# Altium footprint library 18650 battery.PCBLIB: 111 footprints (part 4 of 7)
Each footprint in its own frame and in the unit in brackets; x right, y up, seen from the top. Pads: shape width x height; smd on the part's side, far side on the other; paste and mask are expansions set on the pad; w line width, h text height; cw(c..) or ccw(c..) is an arc to the next point about the centre after c.
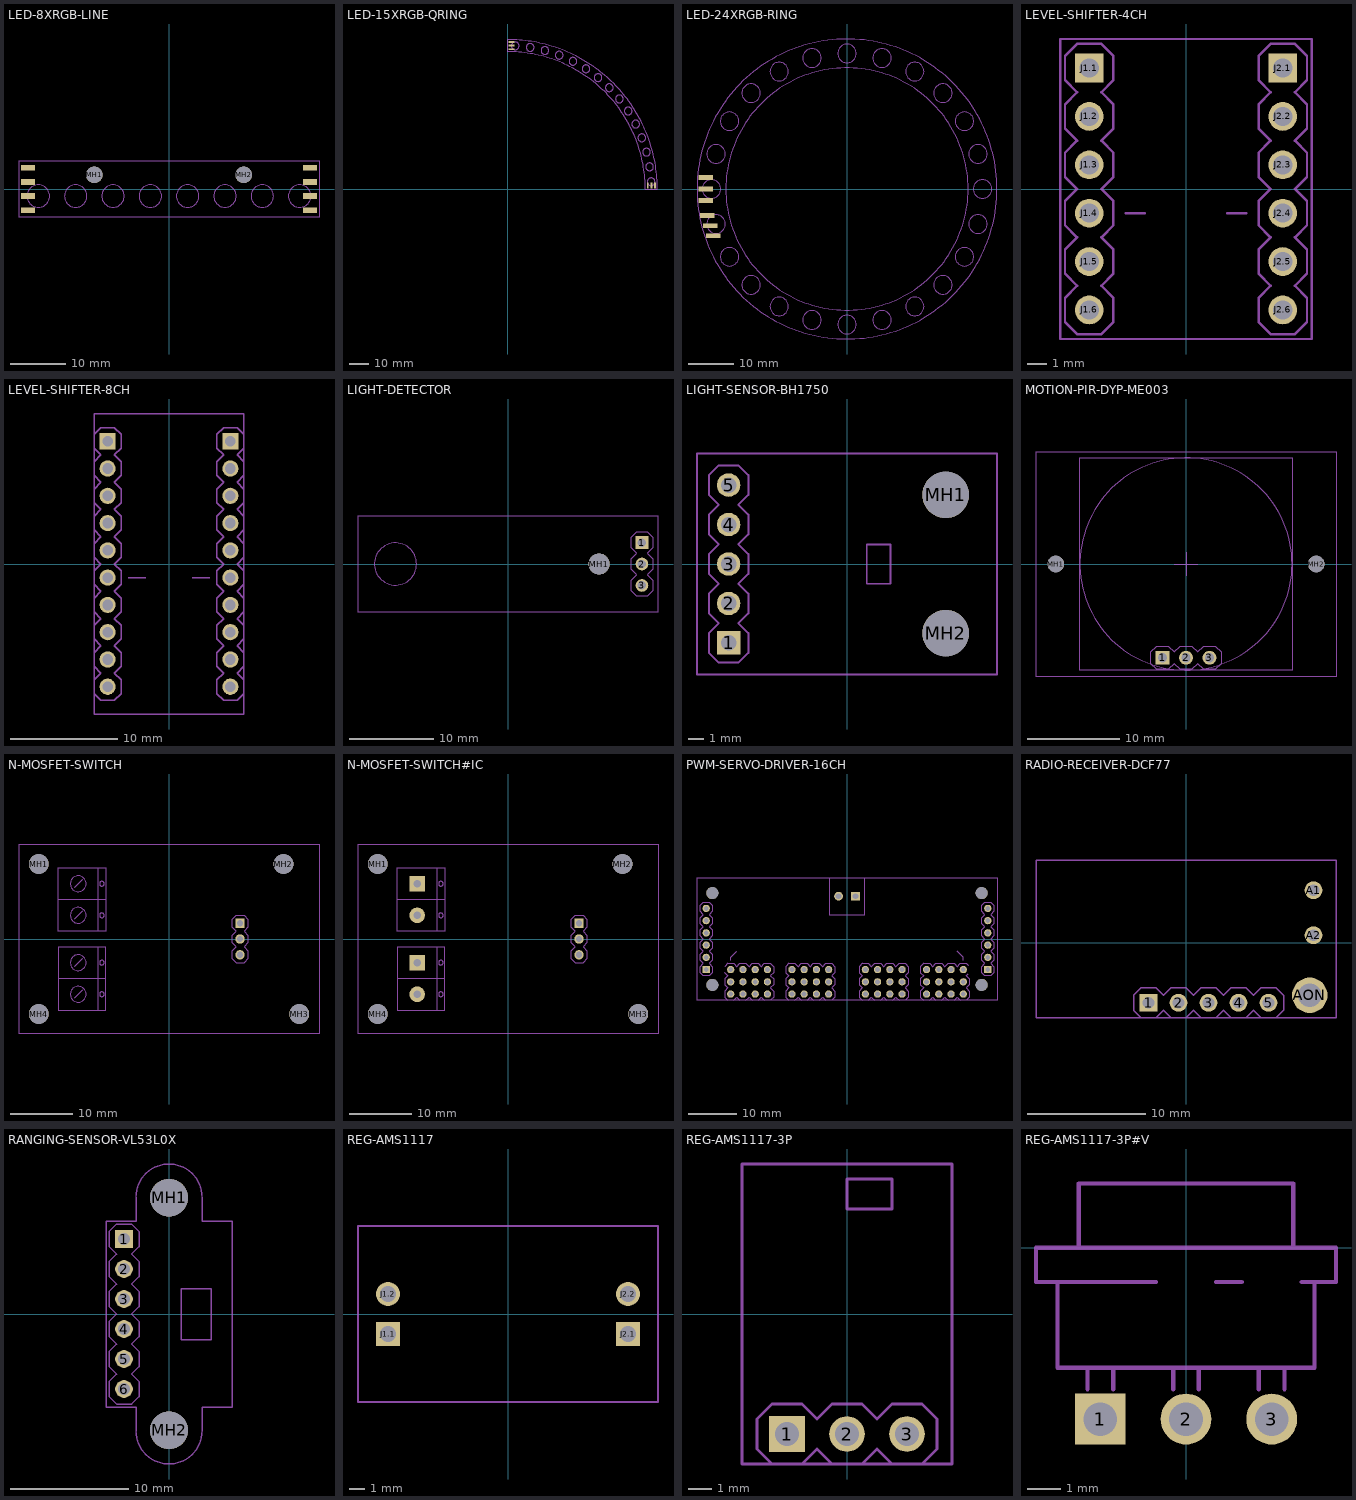
[diagram p3: the footprints below, top view; thin cyan lines are the x and y axes]

## LED-8XRGB-LINE [mil]
pads (10):
  rect 100x40 smd: A.1(-1000,150) A.2(-1000,50) A.3(-1000,-50) A.4(-1000,-150) B.1(1000,150) B.2(1000,50) B.3(1000,-50) B.4(1000,-150)
  round 118.11 hole 118.11 unplated: MH1(-530,100) MH2(530,100)
tPlace:
  circle w5: c-927.5,-50 r80
  circle w5: c-662.5,-50 r80
  circle w5: c-397.5,-50 r80
  circle w5: c-132.5,-50 r80
  circle w5: c132.5,-50 r80
  circle w5: c397.5,-50 r80
  circle w5: c662.5,-50 r80
  circle w5: c927.5,-50 r80
  lines w5: -1065,-200 1065,-200 1065,200 -1065,200 -1065,-200
  text "GND" at -1100,150 h77.5
  text "1" at 927.5,-50 h108.5
  text "DOUT" at -1100,50 h77.5
  text "VCC" at -1100,-50 h77.5
  text "GND" at -1100,-150 h77.5
  text "GND" at 1100,150 h77.5
  text "DIN" at 1100,50 h77.5
  text "VCC" at 1100,-50 h77.5
  text "GND" at 1100,-150 h77.5
  text "8" at -927.5,-50 h108.5

## LED-15XRGB-QRING [mil]
pads (6):
  rect 125x40 smd: 1(75,3050) 2(75,2975) 3(75,2900)
  rect 40x125 smd: 4(3050,75) 5(2975,75) 6(2900,75)
tPlace:
  circle w5: c155.7,2970.9 r80
  circle w5: c465.4,2938.4 r80
  circle w5: c770,2873.6 r80
  circle w5: c1066.1,2777.4 r80
  circle w5: c1350.6,2650.7 r80
  circle w5: c1620.3,2495 r80
  circle w5: c1872.2,2312 r80
  circle w5: c2103.6,2103.6 r80
  circle w5: c2312,1872.2 r80
  circle w5: c2495,1620.5 r80
  circle w5: c2650.7,1350.6 r80
  circle w5: c2777.4,1066.1 r80
  circle w5: c2873.6,770 r80
  circle w5: c2938.4,465.4 r80
  circle w5: c2970.9,155.7 r80
  lines w5: 0,2850 0,3100 cw(c0,0) 3100,0 2850,0 ccw(c0,0) 0,2850
  text "1" at 155.7,2970.9 h108.5
  text "GND" at -50,3050 h77.5
  text "DIN" at -50,2975 h77.5
  text "VCC" at -50,2900 h77.5
  text "GND" at 3050,-50 h77.5
  text "DOUT" at 2975,-50 h77.5
  text "VCC" at 2900,-50 h77.5
  text "15" at 2970.9,155.7 h108.5

## LED-24XRGB-RING [mil]
pads (6):
  rect 125x40 smd: 1(-1225,100) 2(-1225,0) 3(-1225,-100) 4(-1210,-230) 5(-1185,-320) 6(-1160,-405)
tPlace:
  circle w5: c0,0 r1050
  circle w5: c0,0 r1300
  circle w5: c-1175,0 r80
  circle w5: c1175,0 r80
  circle w5: c0,1175 r80
  circle w5: c0,-1175 r80
  circle w5: c-1135,304.1 r80
  circle w5: c-1017.6,587.5 r80
  circle w5: c-830.9,830.9 r80
  circle w5: c-587.5,1017.6 r80
  circle w5: c304.1,1135 r80
  circle w5: c-304.1,1135 r80
  circle w5: c587.5,1017.6 r80
  circle w5: c830.9,830.9 r80
  circle w5: c1017.6,587.5 r80
  circle w5: c1135,304.1 r80
  circle w5: c1135,-304.1 r80
  circle w5: c1017.6,-587.5 r80
  circle w5: c830.9,-830.9 r80
  circle w5: c587.5,-1017.6 r80
  circle w5: c304.1,-1135 r80
  circle w5: c-304.1,-1135 r80
  circle w5: c-830.9,-830.9 r80
  circle w5: c-587.5,-1017.6 r80
  circle w5: c-1017.6,-587.5 r80
  circle w5: c-1135,-304.1 r80
  text "1" at -1175,0 h108.5
  text "VCC" at -1000,0 h77.5
  text "GND" at -990,100 h77.5
  text "DIN" at -990,-100 h77.5
  text "DOUT" at -980,-200 h77.5
  text "VCC" at -960,-300 h77.5
  text "GND" at -925,-400 h77.5
  text "7" at 0,1175 h108.5
  text "13" at 1175,0 h108.5
  text "19" at 0,-1175 h108.5

## LEVEL-SHIFTER-4CH [mm]
pads (12):
  rect 1.508x1.508 / inner round 1.393 / far side rect 1.508x1.508 hole 1: J1.1(-5.08,6.35) J2.1(5.08,6.35)
  round 1.508 hole 1: J1.2(-5.08,3.81) J1.3(-5.08,1.27) J1.4(-5.08,-1.27) J1.5(-5.08,-3.81) J1.6(-5.08,-6.35) J2.2(5.08,3.81) J2.3(5.08,1.27) J2.4(5.08,-1.27) J2.5(5.08,-3.81) J2.6(5.08,-6.35)
tPlace:
  lines w0.127: -3.175,-1.27 -2.159,-1.27 ; 2.159,-1.27 3.175,-1.27 ; -6.604,-7.874 6.604,-7.874 6.604,7.874 -6.604,7.874 -6.604,-7.874 ; -6.35,-6.985 -5.715,-7.62 -4.445,-7.62 -3.81,-6.985 -3.81,-5.715 -4.445,-5.08 -3.81,-4.445 -3.81,-3.175 -4.445,-2.54 -3.81,-1.905 -3.81,-0.635 -4.445,0 -3.81,0.635 -3.81,1.905 -4.445,2.54 -3.81,3.175 -3.81,4.445 -4.445,5.08 -3.81,5.715 -3.81,6.985 -4.445,7.62 -5.715,7.62 -6.35,6.985 -6.35,5.715 -5.715,5.08 -6.35,4.445 -6.35,3.175 -5.715,2.54 -6.35,1.905 -6.35,0.635 -5.715,0 -6.35,-0.635 -6.35,-1.905 -5.715,-2.54 -6.35,-3.175 -6.35,-4.445 -5.715,-5.08 -6.35,-5.715 -6.35,-6.985 ; 3.81,-6.985 3.81,-5.715 4.445,-5.08 3.81,-4.445 3.81,-3.175 4.445,-2.54 3.81,-1.905 3.81,-0.635 4.445,0 3.81,0.635 3.81,1.905 4.445,2.54 3.81,3.175 3.81,4.445 4.445,5.08 3.81,5.715 3.81,6.985 4.445,7.62 5.715,7.62 6.35,6.985 6.35,5.715 5.715,5.08 6.35,4.445 6.35,3.175 5.715,2.54 6.35,1.905 6.35,0.635 5.715,0 6.35,-0.635 6.35,-1.905 5.715,-2.54 6.35,-3.175 6.35,-4.445 5.715,-5.08 6.35,-5.715 6.35,-6.985 5.715,-7.62 4.445,-7.62 3.81,-6.985
  text "HV1" at 3.175,6.35 h1.57
  text "HV2" at 3.175,3.81 h1.57
  text "HV" at 3.175,1.27 h1.97
  text "GND" at 0,-1.27 h1.97
  text "HV3" at 3.175,-3.81 h1.57
  text "HV4" at 3.175,-6.35 h1.57
  text "LV1" at -3.175,6.35 h1.57
  text "LV2" at -3.175,3.81 h1.57
  text "LV" at -3.175,1.27 h1.97
  text "LV3" at -3.175,-3.81 h1.57
  text "LV4" at -3.175,-6.35 h1.57

## LEVEL-SHIFTER-8CH [mm]
pads (20):
  rect 1.508x1.508 / inner round 1.393 / far side rect 1.508x1.508 hole 1: J1.1(-5.715,11.43) J2.1(5.715,11.43)
  round 1.508 hole 1: J1.2(-5.715,8.89) J1.3(-5.715,6.35) J1.4(-5.715,3.81) J1.5(-5.715,1.27) J1.6(-5.715,-1.27) J1.7(-5.715,-3.81) J1.8(-5.715,-6.35) J1.9(-5.715,-8.89) J1.10(-5.715,-11.43) J2.2(5.715,8.89) J2.3(5.715,6.35) J2.4(5.715,3.81) J2.5(5.715,1.27) J2.6(5.715,-1.27) J2.7(5.715,-3.81) J2.8(5.715,-6.35) J2.9(5.715,-8.89) J2.10(5.715,-11.43)
tPlace:
  lines w0.127: -6.985,-12.065 -6.35,-12.7 -5.08,-12.7 -4.445,-12.065 -4.445,-10.795 -5.08,-10.16 -4.445,-9.525 -4.445,-8.255 -5.08,-7.62 -4.445,-6.985 -4.445,-5.715 -5.08,-5.08 -4.445,-4.445 -4.445,-3.175 -5.08,-2.54 -4.445,-1.905 -4.445,-0.635 -5.08,0 -4.445,0.635 -4.445,1.905 -5.08,2.54 -4.445,3.175 -4.445,4.445 -5.08,5.08 -4.445,5.715 -4.445,6.985 -5.08,7.62 -4.445,8.255 -4.445,9.525 -5.08,10.16 -4.445,10.795 -4.445,12.065 -5.08,12.7 -6.35,12.7 -6.985,12.065 ; -6.985,-10.795 -6.35,-10.16 -6.985,-9.525 ; -6.985,-8.255 -6.35,-7.62 -6.985,-6.985 ; -6.985,-5.715 -6.35,-5.08 -6.985,-4.445 ; -6.985,-3.175 -6.35,-2.54 -6.985,-1.905 ; -6.985,-0.635 -6.35,0 -6.985,0.635 ; -6.985,1.905 -6.35,2.54 -6.985,3.175 ; -6.985,4.445 -6.35,5.08 -6.985,5.715 ; -6.985,6.985 -6.35,7.62 -6.985,8.255 ; -6.985,9.525 -6.35,10.16 -6.985,10.795 ; -3.81,-1.27 -2.159,-1.27 ; 2.159,-1.27 3.81,-1.27 ; 6.985,-12.065 6.35,-12.7 5.08,-12.7 4.445,-12.065 4.445,-10.795 5.08,-10.16 4.445,-9.525 4.445,-8.255 5.08,-7.62 4.445,-6.985 4.445,-5.715 5.08,-5.08 4.445,-4.445 4.445,-3.175 5.08,-2.54 4.445,-1.905 4.445,-0.635 5.08,0 4.445,0.635 4.445,1.905 5.08,2.54 4.445,3.175 4.445,4.445 5.08,5.08 4.445,5.715 4.445,6.985 5.08,7.62 4.445,8.255 4.445,9.525 5.08,10.16 4.445,10.795 4.445,12.065 5.08,12.7 6.35,12.7 6.985,12.065 ; 6.985,-10.795 6.35,-10.16 6.985,-9.525 ; 6.985,-8.255 6.35,-7.62 6.985,-6.985 ; 6.985,-5.715 6.35,-5.08 6.985,-4.445 ; 6.985,-3.175 6.35,-2.54 6.985,-1.905 ; 6.985,-0.635 6.35,0 6.985,0.635 ; 6.985,1.905 6.35,2.54 6.985,3.175 ; 6.985,4.445 6.35,5.08 6.985,5.715 6.985,6.985 6.35,7.62 6.985,8.255 6.985,9.525 6.35,10.16 6.985,10.795 ; -6.985,-13.97 6.985,-13.97 6.985,13.97 -6.985,13.97 -6.985,-13.97
  text "HV1" at 3.81,11.43 h1.97
  text "HV2" at 3.81,8.89 h1.97
  text "HV" at 3.81,1.27 h1.97
  text "GND" at 0,-1.27 h1.97
  text "HV3" at 3.81,6.35 h1.97
  text "HV4" at 3.81,3.81 h1.97
  text "LV1" at -3.81,11.43 h1.97
  text "LV2" at -3.81,8.89 h1.97
  text "LV" at -3.81,1.27 h1.97
  text "LV3" at -3.81,6.35 h1.97
  text "LV4" at -3.81,3.81 h1.97
  text "LV5" at -3.81,-3.81 h1.97
  text "LV6" at -3.81,-6.35 h1.97
  text "LV7" at -3.81,-8.89 h1.97
  text "LV8" at -3.81,-11.43 h1.97
  text "HV5" at 3.81,-3.81 h1.97
  text "HV6" at 3.81,-6.35 h1.97
  text "HV7" at 3.81,-8.89 h1.97
  text "HV8" at 3.81,-11.43 h1.97

## LIGHT-DETECTOR [mm]
pads (4):
  rect 1.508x1.508 / inner round 1.393 / far side rect 1.508x1.508 hole 1: 1(15.875,2.54)
  round 1.508 hole 1: 2(15.875,0) 3(15.875,-2.54)
  round 2.5 hole 2.5 unplated: MH1(10.795,0)
tPlace:
  circle w0.127: c-13.335,0 r2.5
  lines w0.127: -17.78,-5.715 17.78,-5.715 17.78,5.715 -17.78,5.715 -17.78,-5.715 ; 14.605,-3.175 15.24,-3.81 16.51,-3.81 17.145,-3.175 17.145,-1.905 16.51,-1.27 17.145,-0.635 17.145,0.635 16.51,1.27 17.145,1.905 17.145,3.175 16.51,3.81 15.24,3.81 14.605,3.175 14.605,1.905 15.24,1.27 14.605,0.635 14.605,-0.635 15.24,-1.27 14.605,-1.905 14.605,-3.175
  text "SENS" at -13.335,0 h1.57

## LIGHT-SENSOR-BH1750 [mm]
pads (7):
  rect 1.508x1.508 / inner round 1.393 / far side rect 1.508x1.508 hole 1: 1(-7.62,-5.08)
  round 1.508 hole 1: 2(-7.62,-2.54) 3(-7.62,0) 4(-7.62,2.54) 5(-7.62,5.08)
  round 3 hole 3 unplated: MH1(6.35,4.445) MH2(6.35,-4.445)
tPlace:
  lines w0.127: -9.652,-7.112 9.652,-7.112 9.652,7.112 -9.652,7.112 -9.652,-7.112 ; -8.89,-5.715 -8.89,-4.445 -8.255,-3.81 -8.89,-3.175 -8.89,-1.905 -8.255,-1.27 -8.89,-0.635 -8.89,0.635 -8.255,1.27 -8.89,1.905 -8.89,3.175 -8.255,3.81 -8.89,4.445 -8.89,5.715 -8.255,6.35 -6.985,6.35 -6.35,5.715 -6.35,4.445 -6.985,3.81 -6.35,3.175 -6.35,1.905 -6.985,1.27 -6.35,0.635 -6.35,-0.635 -6.985,-1.27 -6.35,-1.905 -6.35,-3.175 -6.985,-3.81 -6.35,-4.445 -6.35,-5.715 -6.985,-6.35 -8.255,-6.35 -8.89,-5.715 ; 1.27,-1.27 2.794,-1.27 2.794,1.27 1.27,1.27 1.27,-1.27
  text "SCL" at -5.715,0 h1.97
  text "SDA" at -5.715,2.54 h1.97
  text "ADDR" at -5.715,5.08 h1.97
  text "GND" at -5.715,-2.54 h1.97
  text "VCC" at -5.715,-5.08 h1.97
  text "BH1750" at 3.81,0 h1.57

## MOTION-PIR-DYP-ME003 [mm]
pads (5):
  rect 1.508x1.508 / inner round 1.393 / far side rect 1.508x1.508 hole 1: 1(-2.54,-10.16)
  round 1.508 hole 1: 2(0,-10.16) 3(2.54,-10.16)
  round 1.8 hole 1.8 unplated: MH1(-14.1,0) MH2(14.1,0)
tPlace:
  circle w0.127: c0,0 r11.5
  lines w0.127: -1.27,0 1.27,0 ; 0,-1.27 0,1.27 ; -16.256,-12.192 16.256,-12.192 16.256,12.192 -16.256,12.192 -16.256,-12.192 ; -11.5,-11.5 11.5,-11.5 11.5,11.5 -11.5,11.5 -11.5,-11.5 ; -3.81,-10.795 -3.175,-11.43 -1.905,-11.43 -1.27,-10.795 -0.635,-11.43 0.635,-11.43 1.27,-10.795 1.905,-11.43 3.175,-11.43 3.81,-10.795 3.81,-9.525 3.175,-8.89 1.905,-8.89 1.27,-9.525 0.635,-8.89 -0.635,-8.89 -1.27,-9.525 -1.905,-8.89 -3.175,-8.89 -3.81,-9.525 -3.81,-10.795

## N-MOSFET-SWITCH [mm]
pads (7):
  rect 1.508x1.508 / inner round 1.393 / far side rect 1.508x1.508 hole 1: J1.1(11.43,2.54)
  round 1.508 hole 1: J1.2(11.43,0) J1.3(11.43,-2.54)
  round 3.2 hole 3.2 unplated: MH1(-20.955,12.065) MH2(18.415,12.065) MH3(20.955,-12.065) MH4(-20.955,-12.065)
tPlace:
  circle w0.127: c-10.795,8.89 r0.381
  circle w0.127: c-10.795,3.81 r0.381
  circle w0.127: c-10.795,-3.81 r0.381
  circle w0.127: c-10.795,-8.89 r0.381
  circle w0.127: c-14.605,3.81 r1.27
  circle w0.127: c-14.605,8.89 r1.27
  circle w0.127: c-14.605,-3.81 r1.27
  circle w0.127: c-14.605,-8.89 r1.27
  lines w0.127: -15.24,-9.525 -13.97,-8.255 ; -15.24,-4.445 -13.97,-3.175 ; -15.24,3.175 -13.97,4.445 ; -15.24,8.255 -13.97,9.525 ; -17.78,-6.35 -17.78,-1.27 -11.43,-1.27 ; -17.78,-6.35 -10.16,-6.35 ; -17.78,-6.35 -17.78,-11.43 -11.43,-11.43 ; -17.78,6.35 -17.78,1.27 -11.43,1.27 ; -17.78,6.35 -17.78,11.43 -11.43,11.43 ; -17.78,6.35 -10.16,6.35 ; -11.43,-11.43 -10.16,-11.43 -10.16,-6.35 ; -11.43,-11.43 -11.43,-1.27 ; -11.43,-1.27 -10.16,-1.27 -10.16,-6.35 ; -11.43,1.27 -10.16,1.27 -10.16,6.35 ; -11.43,1.27 -11.43,11.43 ; -11.43,11.43 -10.16,11.43 -10.16,6.35 ; -24.13,-15.24 24.13,-15.24 24.13,15.24 -24.13,15.24 -24.13,-15.24 ; 10.16,-3.175 10.795,-3.81 12.065,-3.81 12.7,-3.175 12.7,-1.905 12.065,-1.27 12.7,-0.635 12.7,0.635 12.065,1.27 12.7,1.905 12.7,3.175 12.065,3.81 10.795,3.81 10.16,3.175 10.16,1.905 10.795,1.27 10.16,0.635 10.16,-0.635 10.795,-1.27 10.16,-1.905 10.16,-3.175
  text "V+" at -8.89,8.89 h1.97
  text "COM" at -8.89,3.81 h1.97
  text "V+" at -8.89,-3.81 h1.97
  text "SW" at -8.89,-8.89 h1.97
  text "IN" at -19.685,6.35 h2.76
  text "OUT" at -19.685,-6.35 h2.76
  text "GND" at 8.89,2.54 h1.97
  text "VCC" at 8.89,0 h1.97
  text "CTRL" at 8.89,-2.54 h1.97

## N-MOSFET-SWITCH#IC [mm]
pads (11):
  rect 1.508x1.508 / inner round 1.393 / far side rect 1.508x1.508 hole 1: J1.1(11.43,2.54)
  round 1.508 hole 1: J1.2(11.43,0) J1.3(11.43,-2.54)
  round 3.2 hole 3.2 unplated: MH1(-20.955,12.065) MH2(18.415,12.065) MH3(20.955,-12.065) MH4(-20.955,-12.065)
  rect 2.5x2.5 / inner round 2.31 / far side rect 2.5x2.5 hole 1.2: P1.1(-14.605,8.89) P2.1(-14.605,-3.81)
  round 2.5 hole 1.2: P1.2(-14.605,3.81) P2.2(-14.605,-8.89)
tPlace:
  circle w0.127: c-10.795,8.89 r0.381
  circle w0.127: c-10.795,3.81 r0.381
  circle w0.127: c-10.795,-3.81 r0.381
  circle w0.127: c-10.795,-8.89 r0.381
  lines w0.127: -17.78,-6.35 -17.78,-1.27 -11.43,-1.27 ; -17.78,-6.35 -10.16,-6.35 ; -17.78,-6.35 -17.78,-11.43 -11.43,-11.43 ; -17.78,6.35 -17.78,1.27 -11.43,1.27 ; -17.78,6.35 -17.78,11.43 -11.43,11.43 ; -17.78,6.35 -10.16,6.35 ; -11.43,-11.43 -10.16,-11.43 -10.16,-6.35 ; -11.43,-11.43 -11.43,-1.27 ; -11.43,-1.27 -10.16,-1.27 -10.16,-6.35 ; -11.43,1.27 -10.16,1.27 -10.16,6.35 ; -11.43,1.27 -11.43,11.43 ; -11.43,11.43 -10.16,11.43 -10.16,6.35 ; -24.13,-15.24 24.13,-15.24 24.13,15.24 -24.13,15.24 -24.13,-15.24 ; 10.16,-3.175 10.795,-3.81 12.065,-3.81 12.7,-3.175 12.7,-1.905 12.065,-1.27 12.7,-0.635 12.7,0.635 12.065,1.27 12.7,1.905 12.7,3.175 12.065,3.81 10.795,3.81 10.16,3.175 10.16,1.905 10.795,1.27 10.16,0.635 10.16,-0.635 10.795,-1.27 10.16,-1.905 10.16,-3.175
  text "V+" at -8.89,8.89 h1.97
  text "COM" at -8.89,3.81 h1.97
  text "V+" at -8.89,-3.81 h1.97
  text "SW" at -8.89,-8.89 h1.97
  text "IN" at -19.685,6.35 h2.76
  text "OUT" at -19.685,-6.35 h2.76
  text "GND" at 8.89,2.54 h1.97
  text "VCC" at 8.89,0 h1.97
  text "CTRL" at 8.89,-2.54 h1.97

## PWM-SERVO-DRIVER-16CH [mm]
pads (66):
  round 1.508 hole 1: C0.1(-24.13,-6.35) C0.2(-24.13,-8.89) C0.3(-24.13,-11.43) C1.1(-21.59,-6.35) C1.2(-21.59,-8.89) C1.3(-21.59,-11.43) C2.1(-19.05,-6.35) C2.2(-19.05,-8.89) C2.3(-19.05,-11.43) C3.1(-16.51,-6.35) C3.2(-16.51,-8.89) C3.3(-16.51,-11.43) C4.1(-11.43,-6.35) C4.2(-11.43,-8.89) C4.3(-11.43,-11.43) C5.1(-8.89,-6.35) C5.2(-8.89,-8.89) C5.3(-8.89,-11.43) C6.1(-6.35,-6.35) C6.2(-6.35,-8.89) C6.3(-6.35,-11.43) C7.1(-3.81,-6.35) C7.2(-3.81,-8.89) C7.3(-3.81,-11.43) C8.1(3.81,-6.35) C8.2(3.81,-8.89) C8.3(3.81,-11.43) C9.1(6.35,-6.35) C9.2(6.35,-8.89) C9.3(6.35,-11.43) C10.1(8.89,-6.35) C10.2(8.89,-8.89) C10.3(8.89,-11.43) C11.1(11.43,-6.35) C11.2(11.43,-8.89) C11.3(11.43,-11.43) C12.1(16.51,-6.35) C12.2(16.51,-8.89) C12.3(16.51,-11.43) C13.1(19.05,-6.35) C13.2(19.05,-8.89) C13.3(19.05,-11.43) C14.1(21.59,-6.35) C14.2(21.59,-8.89) C14.3(21.59,-11.43) C15.1(24.13,-6.35) C15.2(24.13,-8.89) C15.3(24.13,-11.43) JP3.2(-29.21,-3.81) JP3.3(-29.21,-1.27) JP3.4(-29.21,1.27) JP3.5(-29.21,3.81) JP3.6(-29.21,6.35) JP4.2(29.21,-3.81) JP4.3(29.21,-1.27) JP4.4(29.21,1.27) JP4.5(29.21,3.81) JP4.6(29.21,6.35)
  rect 1.8x1.8 / inner round 1.663 / far side rect 1.8x1.8 hole 1.2: J1.1(1.753,8.89)
  round 1.8 hole 1.2: J1.2(-1.753,8.89)
  rect 1.508x1.508 / inner round 1.393 / far side rect 1.508x1.508 hole 1: JP3.1(-29.21,-6.35) JP4.1(29.21,-6.35)
  round 2.5 hole 2.5 unplated: MH1(-27.94,9.525) MH2(-27.94,-9.525) MH3(27.94,9.525) MH4(27.94,-9.525)
tPlace:
  drawing of 255 lines, arcs and shapes, not listed
  text "GND" at -27.305,6.35 h1.97
  text "OE" at -27.305,3.81 h1.97
  text "SCL" at -27.305,1.27 h1.97
  text "SDA" at -27.305,-1.27 h1.97
  text "VCC" at -27.305,-3.81 h1.57
  text "V+" at -27.305,-6.35 h1.57
  text "GND" at 27.305,6.35 h1.97
  text "OE" at 27.305,3.81 h1.97
  text "SCL" at 27.305,1.27 h1.97
  text "SDA" at 27.305,-1.27 h1.97
  text "VCC" at 27.305,-3.81 h1.57
  text "V+" at 27.305,-6.35 h1.57
  text "PWM" at 0,-6.35 h1.97
  text "V+" at 0,-8.89 h1.97
  text "GND" at 0,-11.43 h1.97
  text "1" at -21.59,-4.445 h1.97
  text "2" at -19.05,-4.445 h1.97
  text "3" at -16.51,-4.445 h1.97
  text "4" at -11.43,-4.445 h1.97
  text "5" at -8.89,-4.445 h1.97
  text "6" at -6.35,-4.445 h1.97
  text "7" at -3.81,-4.445 h1.97
  text "8" at 3.81,-4.445 h1.97
  text "9" at 6.35,-4.445 h1.97
  text "10" at 8.89,-4.445 h1.97
  text "11" at 11.43,-4.445 h1.97
  text "12" at 16.51,-4.445 h1.97
  text "13" at 19.05,-4.445 h1.97
  text "14" at 21.59,-4.445 h1.97
  text "0" at -22.606,-2.286 h1.97
  text "15" at 22.606,-2.286 h1.97
  text "V+" at -1.905,3.81 h1.97
  text "GND" at 1.905,3.81 h1.97

## RADIO-RECEIVER-DCF77 [mm]
pads (8):
  rect 1.508x1.508 / inner round 1.393 / far side rect 1.508x1.508 hole 1: 1(-3.175,-5.08)
  round 1.508 hole 1: 2(-0.635,-5.08) 3(1.905,-5.08) 4(4.445,-5.08) 5(6.985,-5.08) A1(10.795,4.445) A2(10.795,0.635)
  round 3 hole 2: AON(10.477,-4.445)
tPlace:
  lines w0.127: -3.81,-6.35 -2.54,-6.35 ; -3.81,-6.35 -12.7,-6.35 -12.7,6.985 12.7,6.985 12.7,-6.35 7.62,-6.35 ; -3.81,-6.35 -4.445,-5.715 -4.445,-4.445 -3.81,-3.81 -2.54,-3.81 -1.905,-4.445 -1.27,-3.81 0,-3.81 0.635,-4.445 1.27,-3.81 2.54,-3.81 3.175,-4.445 3.81,-3.81 5.08,-3.81 5.715,-4.445 6.35,-3.81 7.62,-3.81 8.255,-4.445 8.255,-5.715 7.62,-6.35 ; -2.54,-6.35 -1.27,-6.35 ; -2.54,-6.35 -1.905,-5.715 -1.27,-6.35 ; -1.27,-6.35 0,-6.35 ; 0,-6.35 1.27,-6.35 ; 0,-6.35 0.635,-5.715 1.27,-6.35 ; 1.27,-6.35 2.54,-6.35 ; 2.54,-6.35 3.81,-6.35 ; 2.54,-6.35 3.175,-5.715 3.81,-6.35 ; 3.81,-6.35 5.08,-6.35 ; 5.08,-6.35 6.35,-6.35 ; 5.08,-6.35 5.715,-5.715 6.35,-6.35 ; 6.35,-6.35 7.62,-6.35
  text "V" at -3.175,-3.175 h1.97
  text "G" at -0.635,-3.175 h1.97
  text "P2" at 1.905,-3.175 h1.97
  text "T" at 4.445,-3.175 h1.97
  text "P1" at 6.985,-3.175 h1.97
  text "ANT1" at 9.525,4.445 h1.97
  text "ANT2" at 9.525,0.635 h1.97
  text "AON" at 10.477,-2.54 h1.97

## RANGING-SENSOR-VL53L0X [mm]
pads (8):
  rect 1.508x1.508 / inner round 1.393 / far side rect 1.508x1.508 hole 1: 1(-3.81,6.35)
  round 1.508 hole 1: 2(-3.81,3.81) 3(-3.81,1.27) 4(-3.81,-1.27) 5(-3.81,-3.81) 6(-3.81,-6.35)
  round 3.2 hole 3.2 unplated: MH1(0,9.85) MH2(0,-9.85)
tPlace:
  lines w0.127: -5.334,-7.874 -5.334,7.874 -2.794,7.874 -2.794,9.906 cw(c0,9.906) 2.794,9.906 2.794,7.874 5.334,7.874 5.334,-7.874 2.794,-7.874 2.794,-9.906 cw(c0,-9.906) -2.794,-9.906 -2.794,-7.874 -5.334,-7.874 ; -5.08,-6.985 -5.08,-5.715 -4.445,-5.08 -5.08,-4.445 -5.08,-3.175 -4.445,-2.54 -5.08,-1.905 -5.08,-0.635 -4.445,0 -5.08,0.635 -5.08,1.905 -4.445,2.54 -5.08,3.175 -5.08,4.445 -4.445,5.08 -5.08,5.715 -5.08,6.985 -4.445,7.62 -3.175,7.62 -2.54,6.985 -2.54,5.715 -3.175,5.08 -2.54,4.445 -2.54,3.175 -3.175,2.54 -2.54,1.905 -2.54,0.635 -3.175,0 -2.54,-0.635 -2.54,-1.905 -3.175,-2.54 -2.54,-3.175 -2.54,-4.445 -3.175,-5.08 -2.54,-5.715 -2.54,-6.985 -3.175,-7.62 -4.445,-7.62 -5.08,-6.985 ; 1.016,-2.159 1.016,2.159 3.556,2.159 3.556,-2.159 1.016,-2.159
  text "SCL" at -1.905,1.27 h1.57
  text "GND" at -1.905,3.81 h1.97
  text "VIN" at -1.905,6.35 h1.97
  text "SDA" at -1.905,-1.27 h1.57
  text "GPIO1" at -1.905,-3.81 h1.97
  text "XSHUT" at -1.905,-6.35 h1.97

## REG-AMS1117 [mm]
pads (4):
  rect 1.508x1.508 / inner round 1.393 / far side rect 1.508x1.508 hole 1: J1.1(-7.62,-1.27) J2.1(7.62,-1.27)
  round 1.508 hole 1: J1.2(-7.62,1.27) J2.2(7.62,1.27)
tPlace:
  lines w0.127: -9.525,-5.588 9.525,-5.588 9.525,5.588 -9.525,5.588 -9.525,-5.588

## REG-AMS1117-3P [mm]
pads (3):
  rect 1.508x1.508 / inner round 1.393 / far side rect 1.508x1.508 hole 1: 1(-2.54,-5.08)
  round 1.508 hole 1: 2(0,-5.08) 3(2.54,-5.08)
tPlace:
  lines w0.127: -3.175,-6.35 -3.81,-5.715 -3.81,-4.445 -3.175,-3.81 -1.905,-3.81 -1.27,-4.445 -0.635,-3.81 0.635,-3.81 1.27,-4.445 1.905,-3.81 3.175,-3.81 3.81,-4.445 3.81,-5.715 3.175,-6.35 ; -1.905,-6.35 -1.27,-5.715 -0.635,-6.35 ; 0.635,-6.35 1.27,-5.715 1.905,-6.35 ; -4.445,-6.35 4.445,-6.35 4.445,6.35 -4.445,6.35 -4.445,-6.35 ; 0,4.445 1.905,4.445 1.905,5.715 0,5.715 0,4.445
  text "GND" at 2.54,-3.175 h1.97
  text "OUT" at 0,-3.175 h1.97
  text "IN" at -2.54,-3.175 h1.97
  text "D1" at 2.413,5.08 h1.57

## REG-AMS1117-3P#V [mm]
pads (3):
  rect 1.508x1.508 / inner round 1.393 / far side rect 1.508x1.508 hole 1: 1(-2.54,-5.08)
  round 1.508 hole 1: 2(0,-5.08) 3(2.54,-5.08)
tPlace:
  lines w0.127: -2.921,-4.191 -2.921,-3.556 ; -2.159,-4.191 -2.159,-3.556 ; -0.889,-1.016 -3.81,-1.016 ; -0.381,-4.191 -0.381,-3.556 ; 0.381,-4.191 0.381,-3.556 ; 0.889,-1.016 1.651,-1.016 ; 2.159,-4.191 2.159,-3.556 ; 2.921,-4.191 2.921,-3.556 ; 3.429,-1.016 3.81,-1.016 ; -3.81,-1.016 -4.445,-1.016 -4.445,0 -3.175,0 ; -3.81,-1.016 -3.81,-3.556 -2.921,-3.556 ; -3.175,0 3.175,0 ; -3.175,0 -3.175,1.905 3.175,1.905 3.175,0 ; -2.921,-3.556 -2.159,-3.556 ; -2.159,-3.556 -0.381,-3.556 ; -0.381,-3.556 0.381,-3.556 ; 0.381,-3.556 2.159,-3.556 ; 2.159,-3.556 2.921,-3.556 ; 2.921,-3.556 3.81,-3.556 3.81,-1.016 ; 3.175,0 4.445,0 4.445,-1.016 3.81,-1.016
  text "GND" at 2.54,-3.175 h1.57
  text "OUT" at 0,-3.175 h1.57
  text "IN" at -2.54,-3.175 h1.57